# EAGLE library part CONN7 (library simpa)
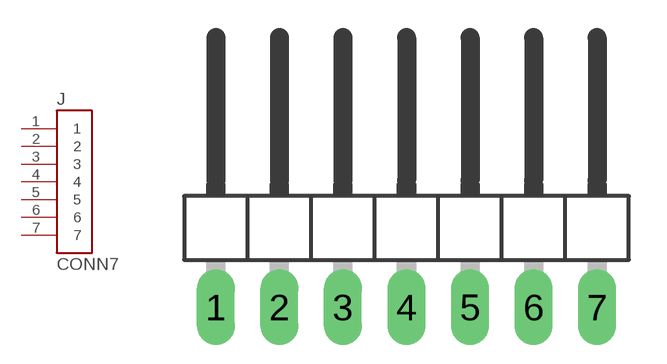
[diagram p4: symbol with the pads of 1X07/90; footprint 1X07/90]

Designator prefix J

## CONN7-RT  [1X07/90]
1  1  pas
2  2  pas
3  3  pas
4  4  pas
5  5  pas
6  6  pas
7  7  pas

## Footprint 1X07/90 (pad centres in mm)
drill 1.016 long: 1 0,0; 2 2.54,0; 3 5.08,0; 4 7.62,0; 5 10.16,0; 6 12.7,0; 7 15.24,0